# EAGLE library part WEMOS-D1-MINI_SEM_LAYOUT (library esp8266modules)
WeMos.cc D1 mini ESP8266 module
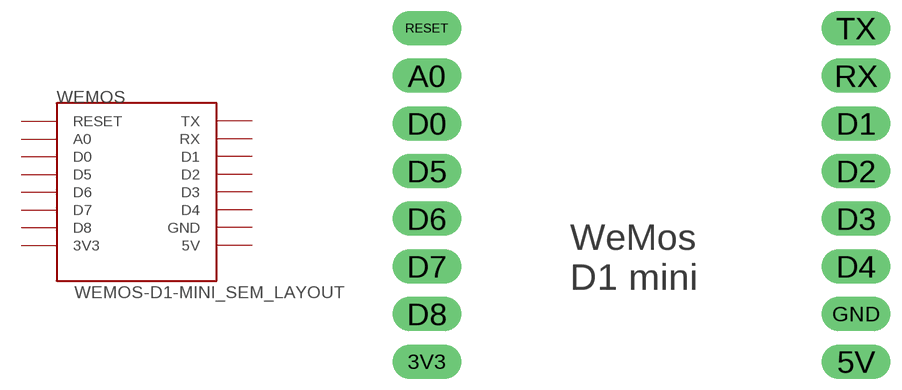
[diagram p18: symbol with the pads of WEMOS-D1-MINI_SEM_LAYOUT; footprint WEMOS-D1-MINI_SEM_LAYOUT]

Designator prefix WEMOS

## WEMOS-D1-MINI_SEM_LAYOUT  [WEMOS-D1-MINI_SEM_LAYOUT]
3V3  3V3
5V  5V
A0  A0
D0  D0
D1  D1
D2  D2
D3  D3
D4  D4
D5  D5
D6  D6
D7  D7
D8  D8
GND  GND
RESET  RESET
RX  RX
TX  TX

## Footprint WEMOS-D1-MINI_SEM_LAYOUT (pad centres in mm)
WeMos.cc D1 mini ESP8266 module
drill 1.016 pad 1.829 long: 3V3 -10.16,-10.16; 5V 12.7,-10.16; A0 -10.16,5.08; D0 -10.16,2.54; D1 12.7,2.54; D2 12.7,0; D3 12.7,-2.54; D4 12.7,-5.08; D5 -10.16,0; D6 -10.16,-2.54; D7 -10.16,-5.08; D8 -10.16,-7.62; GND 12.7,-7.62; RESET -10.16,7.62; RX 12.7,5.08; TX 12.7,7.62